# EAGLE library part MSP430F1* (library Texas Instruments)
MIXED SIGNAL MICROCONTROLLER Family Members Include: - MSP430F133: 8KB+256B Flash Memory, 256B RAM - MSP430F135: 16KB+256B Flash Memory, 512B RAM - MSP430F147, MSP430F1471: 32KB+256B Flash Memory, 1KB RAM - MSP430F148, MSP430F1481: 48KB+256B Flash Memory, 2KB RAM - MSP430F149, MSP430F1491: 60KB+256B Flash Memory, 2KB RAM
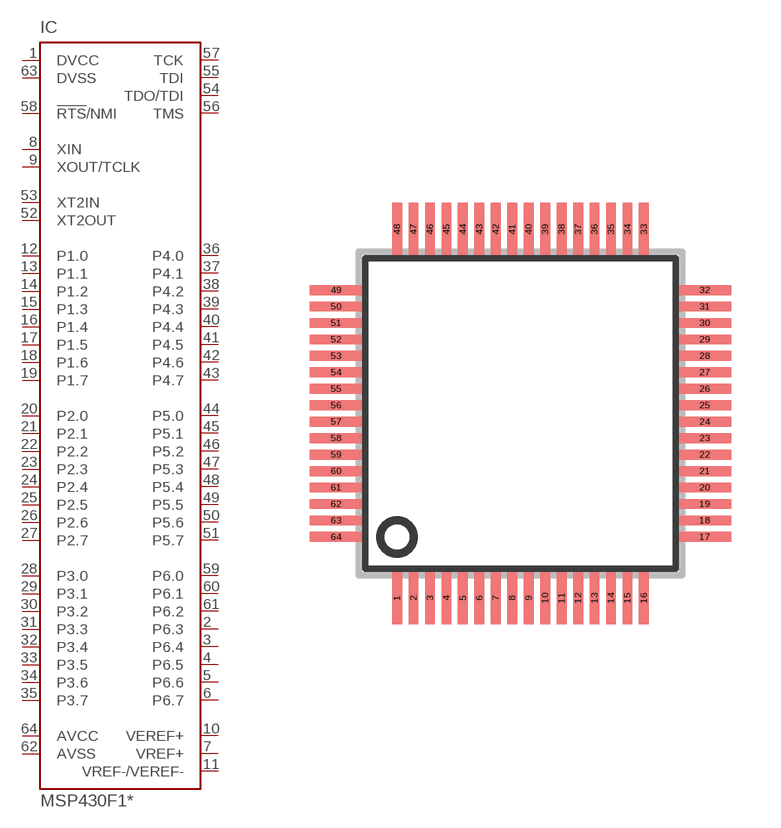
[diagram p9: symbol with the pads of SQFP-S-10X10-64; footprint SQFP-S-10X10-64]

Designator prefix IC

## MSP430F133 (MF: TEXAS INSTRUMENTS; MPN: MSP430F133IPM; OC_FARNELL: 1471268; OC_NEWARK: 75C4034), MSP430F135 (MF: TEXAS INSTRUMENTS; MPN: MSP430F135IPM; OC_FARNELL: 1106050; OC_NEWARK: 75C4036), MSP430F147 (MPN: MSP430F1471IPM; OC_FARNELL: 1649389; OC_NEWARK: 95M6746), MSP430F1471 (MPN: MSP430F1471IRTDT; OC_FARNELL: 1537163; OC_NEWARK: 95M6747), MSP430F148 (MPN: MSP430F1481IPM; OC_FARNELL: 1649391; OC_NEWARK: 95M6750), MSP430F1481 (MPN: MSP430F1481IPM; OC_FARNELL: 1649391; OC_NEWARK: 95M6750), MSP430F149 (MPN: MSP430F1491IRTDT; OC_FARNELL: 1537170; OC_NEWARK: 95M6752), MSP430F1491 (MF: TEXAS INSTRUMENT CONNECTORS; MPN: MSP430F1491IPM; OC_FARNELL: 1537169; OC_NEWARK: 34K8186)  [SQFP-S-10X10-64]
1  DVCC  pwr
2  P6.3
3  P6.4
4  P6.5
5  P6.6
6  P6.7
7  VREF+  out
8  XIN  in
9  XOUT/TCLK
10  VEREF+  in
11  VREF-/VEREF-
12  P1.0
13  P1.1
14  P1.2
15  P1.3
16  P1.4
17  P1.5
18  P1.6
19  P1.7
20  P2.0
21  P2.1
22  P2.2
23  P2.3
24  P2.4
25  P2.5
26  P2.6
27  P2.7
28  P3.0
29  P3.1
30  P3.2
31  P3.3
32  P3.4
33  P3.5
34  P3.6
35  P3.7
36  P4.0
37  P4.1
38  P4.2
39  P4.3
40  P4.4
41  P4.5
42  P4.6
43  P4.7
44  P5.0
45  P5.1
46  P5.2
47  P5.3
48  P5.4
49  P5.5
50  P5.6
51  P5.7
52  XT2OUT  out
53  XT2IN  in
54  TDO/TDI
55  TDI  in
56  TMS  in
57  TCK  in
58  !RTS!/NMI  in
59  P6.0
60  P6.1
61  P6.2
62  AVSS  pwr
63  DVSS  pwr
64  AVCC  pwr

## Footprint SQFP-S-10X10-64 (pad centres in mm)
QFP64 shrink quad flat pack, square
smd 0.3 x 1.6: 1 -3.75,-5.6; 2 -3.25,-5.6; 3 -2.75,-5.6; 4 -2.25,-5.6; 5 -1.75,-5.6; 6 -1.25,-5.6; 7 -0.75,-5.6; 8 -0.25,-5.6; 9 0.25,-5.6; 10 0.75,-5.6; 11 1.25,-5.6; 12 1.75,-5.6; 13 2.25,-5.6; 14 2.75,-5.6; 15 3.25,-5.6; 16 3.75,-5.6; 33 3.75,5.6; 34 3.25,5.6; 35 2.75,5.6; 36 2.25,5.6; 37 1.75,5.6; 38 1.25,5.6; 39 0.75,5.6; 40 0.25,5.6; 41 -0.25,5.6; 42 -0.75,5.6; 43 -1.25,5.6; 44 -1.75,5.6; 45 -2.25,5.6; 46 -2.75,5.6; 47 -3.25,5.6; 48 -3.75,5.6
smd 1.6 x 0.3: 17 5.6,-3.75; 18 5.6,-3.25; 19 5.6,-2.75; 20 5.6,-2.25; 21 5.6,-1.75; 22 5.6,-1.25; 23 5.6,-0.75; 24 5.6,-0.25; 25 5.6,0.25; 26 5.6,0.75; 27 5.6,1.25; 28 5.6,1.75; 29 5.6,2.25; 30 5.6,2.75; 31 5.6,3.25; 32 5.6,3.75; 49 -5.6,3.75; 50 -5.6,3.25; 51 -5.6,2.75; 52 -5.6,2.25; 53 -5.6,1.75; 54 -5.6,1.25; 55 -5.6,0.75; 56 -5.6,0.25; 57 -5.6,-0.25; 58 -5.6,-0.75; 59 -5.6,-1.25; 60 -5.6,-1.75; 61 -5.6,-2.25; 62 -5.6,-2.75; 63 -5.6,-3.25; 64 -5.6,-3.75